# Altium integrated library Linear Technology Power Management Battery Management.IntLib: 626 symbols (part 50 of 56)
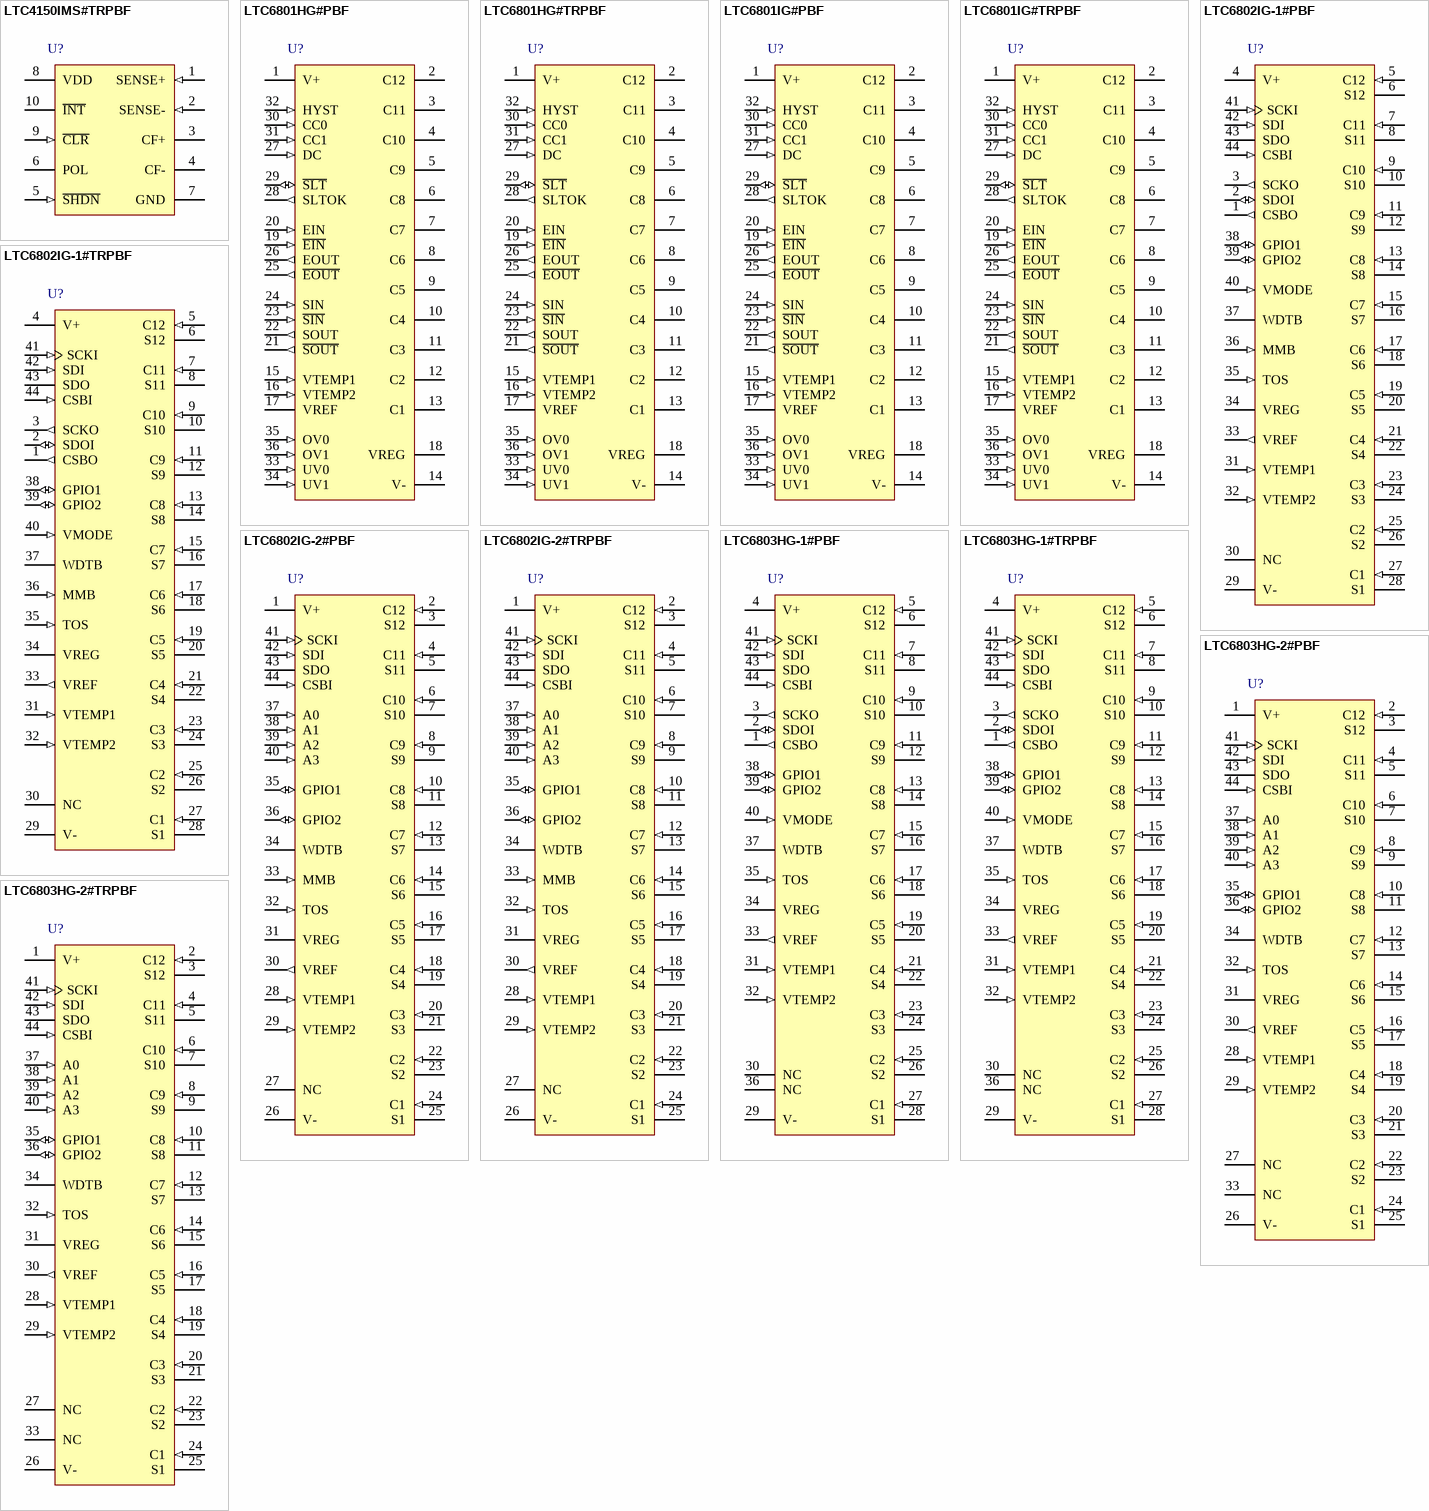
[diagram p71: symbols LTC4150IMS#TRPBF to LTC6803HG-2#TRPBF]

## LTC6801HG#TRPBF
designator U?
Independent Multicell Battery Stack Fault Monitor, 10 to 50 V Vin, 36-pin SOP (G-36), -40 to 125 degC, Pb-Free, Tape and Reel; Manufacturer: Linear Technology; PartNumber: LTC6801HG#TRPBF; Battery Chemistry: Li-Ion; Number of Cells: 12; Type of Charger: Battery Stack Monitor; Vin Max(V): 50; Vin Min(V): 10; DatasheetVersion: Rev. B; PackageReference: G-36; PackageDescription: 36-Pin Plastic SSOP, Body 12.8 x 5.3 mm, Pitch 0.65 mm; Supplier 1: Digi-Key; Supplier Part Number 1: LTC6801HG#TRPBF-ND; Packing: Tape and Reel; RoHS: TRUE; Mounting Technology: Surface Mount; ComponentLink1Description: Manufacturer URL; ComponentLink1URL: http://www.linear.com/; ComponentLink2Description: Datasheet; ComponentLink2URL: http://cds.linear.com/docs/en/datasheet/6801fb.pdf; ComponentLink3Description: Package Specification; ComponentLink3URL: http://cds.linear.com/docs/en/packaging/SSOP_36_05-08-1640.pdf
footprint LT-G-36_N (SOP, 36-Leads, Body 13.1x5.6mm, Pitch 0.65mm, IPC Medium Density)
footprint LT-G-36_L (SOP, 36-Leads, Body 13.1x5.6mm, Pitch 0.65mm, IPC High Density)
footprint LT-G-36_M (SOP, 36-Leads, Body 13.1x5.6mm, Pitch 0.65mm, IPC Low Density)
pins: 1 V+ (power) "Supply Voltage. Tied to the most positive potential in the battery stack. For example, the same potential as C12 when measuring a stack of 12 cells, or the same potential as C7 when measuring a stack of 7 cells.", 2 C12 (power) "Cell Voltage input. Up to 12 cells can be monitored. The lowest potential is tied to V-. The next lowest potential is tied to C1 and so forth. Due to internal overvoltage protection, each C input must be tied to a potential (See Datasheet)", 3 C11 (power) "Cell Voltage input. Up to 12 cells can be monitored. The lowest potential is tied to V-. The next lowest potential is tied to C1 and so forth. Due to internal overvoltage protection, each C input must be tied to a potential (See Datasheet)", 4 C10 (power) "Cell Voltage input. Up to 12 cells can be monitored. The lowest potential is tied to V-. The next lowest potential is tied to C1 and so forth. Due to internal overvoltage protection, each C input must be tied to a potential (See Datasheet)", 5 C9 (power) "Cell Voltage input. Up to 12 cells can be monitored. The lowest potential is tied to V-. The next lowest potential is tied to C1 and so forth. Due to internal overvoltage protection, each C input must be tied to a potential (See Datasheet)", 6 C8 (power) "Cell Voltage input. Up to 12 cells can be monitored. The lowest potential is tied to V-. The next lowest potential is tied to C1 and so forth. Due to internal overvoltage protection, each C input must be tied to a potential (See Datasheet)", 7 C7 (power) "Cell Voltage input. Up to 12 cells can be monitored. The lowest potential is tied to V-. The next lowest potential is tied to C1 and so forth. Due to internal overvoltage protection, each C input must be tied to a potential (See Datasheet)", 8 C6 (power) "Cell Voltage input. Up to 12 cells can be monitored. The lowest potential is tied to V-. The next lowest potential is tied to C1 and so forth. Due to internal overvoltage protection, each C input must be tied to a potential (See Datasheet)", 9 C5 (power) "Cell Voltage input. Up to 12 cells can be monitored. The lowest potential is tied to V-. The next lowest potential is tied to C1 and so forth. Due to internal overvoltage protection, each C input must be tied to a potential (See Datasheet)", 10 C4 (power) "Cell Voltage input. Up to 12 cells can be monitored. The lowest potential is tied to V-. The next lowest potential is tied to C1 and so forth. Due to internal overvoltage protection, each C input must be tied to a potential (See Datasheet)", 11 C3 (power) "Cell Voltage input. Up to 12 cells can be monitored. The lowest potential is tied to V-. The next lowest potential is tied to C1 and so forth. Due to internal overvoltage protection, each C input must be tied to a potential (See Datasheet)", 12 C2 (power) "Cell Voltage input. Up to 12 cells can be monitored. The lowest potential is tied to V-. The next lowest potential is tied to C1 and so forth. Due to internal overvoltage protection, each C input must be tied to a potential (See Datasheet)", 13 C1 (power) "Cell Voltage input. Up to 12 cells can be monitored. The lowest potential is tied to V-. The next lowest potential is tied to C1 and so forth. Due to internal overvoltage protection, each C input must be tied to a potential (See Datasheet)", 14 V- (power) "Tied to the most negative cell potential (bottom of monitored cell stack).", 15 VTEMP1 (in) "Temperature Sensor input. The ADC will measure the voltages on VTEMP1 and VTEMP2 relative to V-. The ADC measurements are referenced to the VREF pin voltage. Therefore a simple thermistor and resistor combination connected (See Datasheet)", 16 VTEMP2 (in) "Temperature Sensor input. The ADC will measure the voltages on VTEMP1 and VTEMP2 relative to V-. The ADC measurements are referenced to the VREF pin voltage. Therefore a simple thermistor and resistor combination connected (See Datasheet)", 17 VREF (hiz) "Reference Output, Nominally 3.058V. Requires a 1uF bypass capacitor to V-. The VREF pin can drive a 100k resistive load connected to V-. VREF must be buffered with an LT6003 amplifier, or similar device to drive heavier (See Datasheet)", 18 VREG (power) "Regulator Output, Nominally 5V. Requires a 1uF bypass capacitor to V-. The VREG pin is capable of supplying up to 4mA to an external load and is continually enabled.", 19 ~{EIN} (in) "Differential Enable Input. A clock signal greater than 2kHz will enable the LTC6801. For operation with a single-ended enable signal (up to 10kHz), drive EIN and connect a 1nF capacitor from E\I\N\ to V-.", 20 EIN (in) "Differential Enable Input. A clock signal greater than 2kHz will enable the LTC6801. For operation with a single-ended enable signal (up to 10kHz), drive EIN and connect a 1nF capacitor from E\I\N\ to V-.", 21 ~{SOUT} (out) "Differential Status Output. Swings V- to VREG. This output will toggle at the same frequency as EIN/E\I\N\ when a valid signal is detected at SIN/S\I\N\ and the battery stack being monitored is within specified parameters, (See Datasheet)", 22 SOUT (out) "Differential Status Output. Swings V- to VREG. This output will toggle at the same frequency as EIN/E\I\N\ when a valid signal is detected at SIN/S\I\N\ and the battery stack being monitored is within specified parameters, (See Datasheet)", 23 ~{SIN} (in) "Differential status input from the IC above. To indicate that the stack is good, SIN must be the same frequency and phase as EIN. See applications circuits for interfacing SIN to the SOUT above.", 24 SIN (in) "Differential status input from the IC above. To indicate that the stack is good, SIN must be the same frequency and phase as EIN. See applications circuits for interfacing SIN to the SOUT above.", 25 ~{EOUT} (out) "A Buffered Version of EIN/E\I\N\. Swings V- to VREG. Must be capacitively coupled to the EIN/E\I\N\ input of the next higher voltage LTC6801 in a stack, or looped to SIN/S\I\N\ of the same chip (pins 23, 24).", 26 EOUT (out) "A Buffered Version of EIN/E\I\N\. Swings V- to VREG. Must be capacitively coupled to the EIN/E\I\N\ input of the next higher voltage LTC6801 in a stack, or looped to SIN/S\I\N\ of the same chip (pins 23, 24).", 27 DC (in) "Duty Cycle Three-Level Input. This pin may be tied to VREG, VREF or V-. The DC pin selects the duty cycle of the monitoring function and has an internal pullup to VREG. See Table 3.", 28 SLTOK (out) "Self Test Logic Output. SLTOK is held HIGH (VREG voltage) upon reset or successful completion of a self test cycle. A LOW output level (V- voltage) indicates the last self test cycle failed.", 29 ~{SLT} (io) "Self Test Open Collector Input/Output. S\L\T\ initiates a self test cycle when it is pulled low externally. When a high to low transition is detected, the next scheduled measurement cycle will be a self test cycle. S\L\T\ (See Datasheet)", 30 CC0 (in) "Cell Count Three-Level input. These pins may be tied to VREG, VREF or V-. CC1 and CC0 select the number of cells attached to the device and each pin has an internal pull-up to VREG.", 31 CC1 (in) "Cell Count Three-Level input. These pins may be tied to VREG, VREF or V-. CC1 and CC0 select the number of cells attached to the device and each pin has an internal pull-up to VREG.", 32 HYST (in) "Hysteresis Three-Level Input. This pin may be tied to VREG, VREF or V-. HYST selects the amount of hysteresis applied to the undervoltage and overvoltage threshold settings and has an internal pull-down to V-.", 33 UV0 (in) "Undervoltage Three-Level input. These pins may be tied to VREG, VREF or V-. UV1 and UV0 select the undervoltage threshold and each pin has an internal pull-up to VREG.", 34 UV1 (in) "Undervoltage Three-Level input. These pins may be tied to VREG, VREF or V-. UV1 and UV0 select the undervoltage threshold and each pin has an internal pull-up to VREG.", 35 OV0 (in) "Overvoltage Three-Level input. These pins may be tied to VREG, VREF or V-. OV1 and OV0 select the overvoltage threshold and each pin has an internal pull-down to V-.", 36 OV1 (in) "Overvoltage Three-Level input. These pins may be tied to VREG, VREF or V-. OV1 and OV0 select the overvoltage threshold and each pin has an internal pull-down to V-."

## LTC6801IG#PBF
designator U?
Independent Multicell Battery Stack Fault Monitor, 10 to 50 V Vin, 36-pin SOP (G-36), -40 to 85 degC, Pb-Free; Manufacturer: Linear Technology; PartNumber: LTC6801IG#PBF; Battery Chemistry: Li-Ion; Number of Cells: 12; Type of Charger: Battery Stack Monitor; Vin Max(V): 50; Vin Min(V): 10; DatasheetVersion: Rev. B; PackageReference: G-36; PackageDescription: 36-Pin Plastic SSOP, Body 12.8 x 5.3 mm, Pitch 0.65 mm; Supplier 1: Digi-Key; Supplier Part Number 1: LTC6801IG#PBF-ND; Supplier 2: Newark; Supplier Part Number 2: 68R2491; RoHS: TRUE; Mounting Technology: Surface Mount; ComponentLink1Description: Manufacturer URL; ComponentLink1URL: http://www.linear.com/; ComponentLink2Description: Datasheet; ComponentLink2URL: http://cds.linear.com/docs/en/datasheet/6801fb.pdf; ComponentLink3Description: Package Specification; ComponentLink3URL: http://cds.linear.com/docs/en/packaging/SSOP_36_05-08-1640.pdf
footprint LT-G-36_N (SOP, 36-Leads, Body 13.1x5.6mm, Pitch 0.65mm, IPC Medium Density)
footprint LT-G-36_L (SOP, 36-Leads, Body 13.1x5.6mm, Pitch 0.65mm, IPC High Density)
footprint LT-G-36_M (SOP, 36-Leads, Body 13.1x5.6mm, Pitch 0.65mm, IPC Low Density)
pins: 1 V+ (power) "Supply Voltage. Tied to the most positive potential in the battery stack. For example, the same potential as C12 when measuring a stack of 12 cells, or the same potential as C7 when measuring a stack of 7 cells.", 2 C12 (power) "Cell Voltage input. Up to 12 cells can be monitored. The lowest potential is tied to V-. The next lowest potential is tied to C1 and so forth. Due to internal overvoltage protection, each C input must be tied to a potential (See Datasheet)", 3 C11 (power) "Cell Voltage input. Up to 12 cells can be monitored. The lowest potential is tied to V-. The next lowest potential is tied to C1 and so forth. Due to internal overvoltage protection, each C input must be tied to a potential (See Datasheet)", 4 C10 (power) "Cell Voltage input. Up to 12 cells can be monitored. The lowest potential is tied to V-. The next lowest potential is tied to C1 and so forth. Due to internal overvoltage protection, each C input must be tied to a potential (See Datasheet)", 5 C9 (power) "Cell Voltage input. Up to 12 cells can be monitored. The lowest potential is tied to V-. The next lowest potential is tied to C1 and so forth. Due to internal overvoltage protection, each C input must be tied to a potential (See Datasheet)", 6 C8 (power) "Cell Voltage input. Up to 12 cells can be monitored. The lowest potential is tied to V-. The next lowest potential is tied to C1 and so forth. Due to internal overvoltage protection, each C input must be tied to a potential (See Datasheet)", 7 C7 (power) "Cell Voltage input. Up to 12 cells can be monitored. The lowest potential is tied to V-. The next lowest potential is tied to C1 and so forth. Due to internal overvoltage protection, each C input must be tied to a potential (See Datasheet)", 8 C6 (power) "Cell Voltage input. Up to 12 cells can be monitored. The lowest potential is tied to V-. The next lowest potential is tied to C1 and so forth. Due to internal overvoltage protection, each C input must be tied to a potential (See Datasheet)", 9 C5 (power) "Cell Voltage input. Up to 12 cells can be monitored. The lowest potential is tied to V-. The next lowest potential is tied to C1 and so forth. Due to internal overvoltage protection, each C input must be tied to a potential (See Datasheet)", 10 C4 (power) "Cell Voltage input. Up to 12 cells can be monitored. The lowest potential is tied to V-. The next lowest potential is tied to C1 and so forth. Due to internal overvoltage protection, each C input must be tied to a potential (See Datasheet)", 11 C3 (power) "Cell Voltage input. Up to 12 cells can be monitored. The lowest potential is tied to V-. The next lowest potential is tied to C1 and so forth. Due to internal overvoltage protection, each C input must be tied to a potential (See Datasheet)", 12 C2 (power) "Cell Voltage input. Up to 12 cells can be monitored. The lowest potential is tied to V-. The next lowest potential is tied to C1 and so forth. Due to internal overvoltage protection, each C input must be tied to a potential (See Datasheet)", 13 C1 (power) "Cell Voltage input. Up to 12 cells can be monitored. The lowest potential is tied to V-. The next lowest potential is tied to C1 and so forth. Due to internal overvoltage protection, each C input must be tied to a potential (See Datasheet)", 14 V- (power) "Tied to the most negative cell potential (bottom of monitored cell stack).", 15 VTEMP1 (in) "Temperature Sensor input. The ADC will measure the voltages on VTEMP1 and VTEMP2 relative to V-. The ADC measurements are referenced to the VREF pin voltage. Therefore a simple thermistor and resistor combination connected (See Datasheet)", 16 VTEMP2 (in) "Temperature Sensor input. The ADC will measure the voltages on VTEMP1 and VTEMP2 relative to V-. The ADC measurements are referenced to the VREF pin voltage. Therefore a simple thermistor and resistor combination connected (See Datasheet)", 17 VREF (hiz) "Reference Output, Nominally 3.058V. Requires a 1uF bypass capacitor to V-. The VREF pin can drive a 100k resistive load connected to V-. VREF must be buffered with an LT6003 amplifier, or similar device to drive heavier (See Datasheet)", 18 VREG (power) "Regulator Output, Nominally 5V. Requires a 1uF bypass capacitor to V-. The VREG pin is capable of supplying up to 4mA to an external load and is continually enabled.", 19 ~{EIN} (in) "Differential Enable Input. A clock signal greater than 2kHz will enable the LTC6801. For operation with a single-ended enable signal (up to 10kHz), drive EIN and connect a 1nF capacitor from E\I\N\ to V-.", 20 EIN (in) "Differential Enable Input. A clock signal greater than 2kHz will enable the LTC6801. For operation with a single-ended enable signal (up to 10kHz), drive EIN and connect a 1nF capacitor from E\I\N\ to V-.", 21 ~{SOUT} (out) "Differential Status Output. Swings V- to VREG. This output will toggle at the same frequency as EIN/E\I\N\ when a valid signal is detected at SIN/S\I\N\ and the battery stack being monitored is within specified parameters, (See Datasheet)", 22 SOUT (out) "Differential Status Output. Swings V- to VREG. This output will toggle at the same frequency as EIN/E\I\N\ when a valid signal is detected at SIN/S\I\N\ and the battery stack being monitored is within specified parameters, (See Datasheet)", 23 ~{SIN} (in) "Differential status input from the IC above. To indicate that the stack is good, SIN must be the same frequency and phase as EIN. See applications circuits for interfacing SIN to the SOUT above.", 24 SIN (in) "Differential status input from the IC above. To indicate that the stack is good, SIN must be the same frequency and phase as EIN. See applications circuits for interfacing SIN to the SOUT above.", 25 ~{EOUT} (out) "A Buffered Version of EIN/E\I\N\. Swings V- to VREG. Must be capacitively coupled to the EIN/E\I\N\ input of the next higher voltage LTC6801 in a stack, or looped to SIN/S\I\N\ of the same chip (pins 23, 24).", 26 EOUT (out) "A Buffered Version of EIN/E\I\N\. Swings V- to VREG. Must be capacitively coupled to the EIN/E\I\N\ input of the next higher voltage LTC6801 in a stack, or looped to SIN/S\I\N\ of the same chip (pins 23, 24).", 27 DC (in) "Duty Cycle Three-Level Input. This pin may be tied to VREG, VREF or V-. The DC pin selects the duty cycle of the monitoring function and has an internal pullup to VREG. See Table 3.", 28 SLTOK (out) "Self Test Logic Output. SLTOK is held HIGH (VREG voltage) upon reset or successful completion of a self test cycle. A LOW output level (V- voltage) indicates the last self test cycle failed.", 29 ~{SLT} (io) "Self Test Open Collector Input/Output. S\L\T\ initiates a self test cycle when it is pulled low externally. When a high to low transition is detected, the next scheduled measurement cycle will be a self test cycle. S\L\T\ (See Datasheet)", 30 CC0 (in) "Cell Count Three-Level input. These pins may be tied to VREG, VREF or V-. CC1 and CC0 select the number of cells attached to the device and each pin has an internal pull-up to VREG.", 31 CC1 (in) "Cell Count Three-Level input. These pins may be tied to VREG, VREF or V-. CC1 and CC0 select the number of cells attached to the device and each pin has an internal pull-up to VREG.", 32 HYST (in) "Hysteresis Three-Level Input. This pin may be tied to VREG, VREF or V-. HYST selects the amount of hysteresis applied to the undervoltage and overvoltage threshold settings and has an internal pull-down to V-.", 33 UV0 (in) "Undervoltage Three-Level input. These pins may be tied to VREG, VREF or V-. UV1 and UV0 select the undervoltage threshold and each pin has an internal pull-up to VREG.", 34 UV1 (in) "Undervoltage Three-Level input. These pins may be tied to VREG, VREF or V-. UV1 and UV0 select the undervoltage threshold and each pin has an internal pull-up to VREG.", 35 OV0 (in) "Overvoltage Three-Level input. These pins may be tied to VREG, VREF or V-. OV1 and OV0 select the overvoltage threshold and each pin has an internal pull-down to V-.", 36 OV1 (in) "Overvoltage Three-Level input. These pins may be tied to VREG, VREF or V-. OV1 and OV0 select the overvoltage threshold and each pin has an internal pull-down to V-."

## LTC6801IG#TRPBF
designator U?
Independent Multicell Battery Stack Fault Monitor, 10 to 50 V Vin, 36-pin SOP (G-36), -40 to 85 degC, Pb-Free, Tape and Reel; Manufacturer: Linear Technology; PartNumber: LTC6801IG#TRPBF; Battery Chemistry: Li-Ion; Number of Cells: 12; Type of Charger: Battery Stack Monitor; Vin Max(V): 50; Vin Min(V): 10; DatasheetVersion: Rev. B; PackageReference: G-36; PackageDescription: 36-Pin Plastic SSOP, Body 12.8 x 5.3 mm, Pitch 0.65 mm; Supplier 1: Digi-Key; Supplier Part Number 1: LTC6801IG#TRPBF-ND; Supplier 2: Newark; Supplier Part Number 2: 68R2492; Packing: Tape and Reel; RoHS: TRUE; Mounting Technology: Surface Mount; ComponentLink1Description: Manufacturer URL; ComponentLink1URL: http://www.linear.com/; ComponentLink2Description: Datasheet; ComponentLink2URL: http://cds.linear.com/docs/en/datasheet/6801fb.pdf; ComponentLink3Description: Package Specification; ComponentLink3URL: http://cds.linear.com/docs/en/packaging/SSOP_36_05-08-1640.pdf
footprint LT-G-36_N (SOP, 36-Leads, Body 13.1x5.6mm, Pitch 0.65mm, IPC Medium Density)
footprint LT-G-36_L (SOP, 36-Leads, Body 13.1x5.6mm, Pitch 0.65mm, IPC High Density)
footprint LT-G-36_M (SOP, 36-Leads, Body 13.1x5.6mm, Pitch 0.65mm, IPC Low Density)
pins: 1 V+ (power) "Supply Voltage. Tied to the most positive potential in the battery stack. For example, the same potential as C12 when measuring a stack of 12 cells, or the same potential as C7 when measuring a stack of 7 cells.", 2 C12 (power) "Cell Voltage input. Up to 12 cells can be monitored. The lowest potential is tied to V-. The next lowest potential is tied to C1 and so forth. Due to internal overvoltage protection, each C input must be tied to a potential (See Datasheet)", 3 C11 (power) "Cell Voltage input. Up to 12 cells can be monitored. The lowest potential is tied to V-. The next lowest potential is tied to C1 and so forth. Due to internal overvoltage protection, each C input must be tied to a potential (See Datasheet)", 4 C10 (power) "Cell Voltage input. Up to 12 cells can be monitored. The lowest potential is tied to V-. The next lowest potential is tied to C1 and so forth. Due to internal overvoltage protection, each C input must be tied to a potential (See Datasheet)", 5 C9 (power) "Cell Voltage input. Up to 12 cells can be monitored. The lowest potential is tied to V-. The next lowest potential is tied to C1 and so forth. Due to internal overvoltage protection, each C input must be tied to a potential (See Datasheet)", 6 C8 (power) "Cell Voltage input. Up to 12 cells can be monitored. The lowest potential is tied to V-. The next lowest potential is tied to C1 and so forth. Due to internal overvoltage protection, each C input must be tied to a potential (See Datasheet)", 7 C7 (power) "Cell Voltage input. Up to 12 cells can be monitored. The lowest potential is tied to V-. The next lowest potential is tied to C1 and so forth. Due to internal overvoltage protection, each C input must be tied to a potential (See Datasheet)", 8 C6 (power) "Cell Voltage input. Up to 12 cells can be monitored. The lowest potential is tied to V-. The next lowest potential is tied to C1 and so forth. Due to internal overvoltage protection, each C input must be tied to a potential (See Datasheet)", 9 C5 (power) "Cell Voltage input. Up to 12 cells can be monitored. The lowest potential is tied to V-. The next lowest potential is tied to C1 and so forth. Due to internal overvoltage protection, each C input must be tied to a potential (See Datasheet)", 10 C4 (power) "Cell Voltage input. Up to 12 cells can be monitored. The lowest potential is tied to V-. The next lowest potential is tied to C1 and so forth. Due to internal overvoltage protection, each C input must be tied to a potential (See Datasheet)", 11 C3 (power) "Cell Voltage input. Up to 12 cells can be monitored. The lowest potential is tied to V-. The next lowest potential is tied to C1 and so forth. Due to internal overvoltage protection, each C input must be tied to a potential (See Datasheet)", 12 C2 (power) "Cell Voltage input. Up to 12 cells can be monitored. The lowest potential is tied to V-. The next lowest potential is tied to C1 and so forth. Due to internal overvoltage protection, each C input must be tied to a potential (See Datasheet)", 13 C1 (power) "Cell Voltage input. Up to 12 cells can be monitored. The lowest potential is tied to V-. The next lowest potential is tied to C1 and so forth. Due to internal overvoltage protection, each C input must be tied to a potential (See Datasheet)", 14 V- (power) "Tied to the most negative cell potential (bottom of monitored cell stack).", 15 VTEMP1 (in) "Temperature Sensor input. The ADC will measure the voltages on VTEMP1 and VTEMP2 relative to V-. The ADC measurements are referenced to the VREF pin voltage. Therefore a simple thermistor and resistor combination connected (See Datasheet)", 16 VTEMP2 (in) "Temperature Sensor input. The ADC will measure the voltages on VTEMP1 and VTEMP2 relative to V-. The ADC measurements are referenced to the VREF pin voltage. Therefore a simple thermistor and resistor combination connected (See Datasheet)", 17 VREF (hiz) "Reference Output, Nominally 3.058V. Requires a 1uF bypass capacitor to V-. The VREF pin can drive a 100k resistive load connected to V-. VREF must be buffered with an LT6003 amplifier, or similar device to drive heavier (See Datasheet)", 18 VREG (power) "Regulator Output, Nominally 5V. Requires a 1uF bypass capacitor to V-. The VREG pin is capable of supplying up to 4mA to an external load and is continually enabled.", 19 ~{EIN} (in) "Differential Enable Input. A clock signal greater than 2kHz will enable the LTC6801. For operation with a single-ended enable signal (up to 10kHz), drive EIN and connect a 1nF capacitor from E\I\N\ to V-.", 20 EIN (in) "Differential Enable Input. A clock signal greater than 2kHz will enable the LTC6801. For operation with a single-ended enable signal (up to 10kHz), drive EIN and connect a 1nF capacitor from E\I\N\ to V-.", 21 ~{SOUT} (out) "Differential Status Output. Swings V- to VREG. This output will toggle at the same frequency as EIN/E\I\N\ when a valid signal is detected at SIN/S\I\N\ and the battery stack being monitored is within specified parameters, (See Datasheet)", 22 SOUT (out) "Differential Status Output. Swings V- to VREG. This output will toggle at the same frequency as EIN/E\I\N\ when a valid signal is detected at SIN/S\I\N\ and the battery stack being monitored is within specified parameters, (See Datasheet)", 23 ~{SIN} (in) "Differential status input from the IC above. To indicate that the stack is good, SIN must be the same frequency and phase as EIN. See applications circuits for interfacing SIN to the SOUT above.", 24 SIN (in) "Differential status input from the IC above. To indicate that the stack is good, SIN must be the same frequency and phase as EIN. See applications circuits for interfacing SIN to the SOUT above.", 25 ~{EOUT} (out) "A Buffered Version of EIN/E\I\N\. Swings V- to VREG. Must be capacitively coupled to the EIN/E\I\N\ input of the next higher voltage LTC6801 in a stack, or looped to SIN/S\I\N\ of the same chip (pins 23, 24).", 26 EOUT (out) "A Buffered Version of EIN/E\I\N\. Swings V- to VREG. Must be capacitively coupled to the EIN/E\I\N\ input of the next higher voltage LTC6801 in a stack, or looped to SIN/S\I\N\ of the same chip (pins 23, 24).", 27 DC (in) "Duty Cycle Three-Level Input. This pin may be tied to VREG, VREF or V-. The DC pin selects the duty cycle of the monitoring function and has an internal pullup to VREG. See Table 3.", 28 SLTOK (out) "Self Test Logic Output. SLTOK is held HIGH (VREG voltage) upon reset or successful completion of a self test cycle. A LOW output level (V- voltage) indicates the last self test cycle failed.", 29 ~{SLT} (io) "Self Test Open Collector Input/Output. S\L\T\ initiates a self test cycle when it is pulled low externally. When a high to low transition is detected, the next scheduled measurement cycle will be a self test cycle. S\L\T\ (See Datasheet)", 30 CC0 (in) "Cell Count Three-Level input. These pins may be tied to VREG, VREF or V-. CC1 and CC0 select the number of cells attached to the device and each pin has an internal pull-up to VREG.", 31 CC1 (in) "Cell Count Three-Level input. These pins may be tied to VREG, VREF or V-. CC1 and CC0 select the number of cells attached to the device and each pin has an internal pull-up to VREG.", 32 HYST (in) "Hysteresis Three-Level Input. This pin may be tied to VREG, VREF or V-. HYST selects the amount of hysteresis applied to the undervoltage and overvoltage threshold settings and has an internal pull-down to V-.", 33 UV0 (in) "Undervoltage Three-Level input. These pins may be tied to VREG, VREF or V-. UV1 and UV0 select the undervoltage threshold and each pin has an internal pull-up to VREG.", 34 UV1 (in) "Undervoltage Three-Level input. These pins may be tied to VREG, VREF or V-. UV1 and UV0 select the undervoltage threshold and each pin has an internal pull-up to VREG.", 35 OV0 (in) "Overvoltage Three-Level input. These pins may be tied to VREG, VREF or V-. OV1 and OV0 select the overvoltage threshold and each pin has an internal pull-down to V-.", 36 OV1 (in) "Overvoltage Three-Level input. These pins may be tied to VREG, VREF or V-. OV1 and OV0 select the overvoltage threshold and each pin has an internal pull-down to V-."

## LTC6802IG-1#PBF
designator U?
Multicell Battery Stack Monitor, 10 to 50 V Vin, 44-pin SOP (G-44), -40 to 85 degC, Pb-Free; Manufacturer: Linear Technology; PartNumber: LTC6802IG-1#PBF; Battery Chemistry: Li-Ion; Number of Cells: > 1000 V of stacked Li-Ion cells; Vin Max(V): 50; Vin Min(V): 10; DatasheetVersion: Rev. A; PackageVersion: Rev. Ø, 06/2010; PackageReference: G-44; PackageDescription: 44-Pin Plastic SSOP, Body 12.8 x 5.3 mm, Pitch 0.5 mm; Supplier 1: Digi-Key; Supplier Part Number 1: LTC6802IG-1#PBF-ND; Supplier 2: Farnell; Supplier Part Number 2: 1847456; Supplier 3: Newark; Supplier Part Number 3: 56P3097; RoHS: TRUE; Type of Charger: Battery Stack Monitor; Mounting Technology: Surface Mount; ComponentLink1Description: Manufacturer URL; ComponentLink1URL: http://www.linear.com/; ComponentLink2Description: Datasheet; ComponentLink2URL: http://cds.linear.com/docs/en/datasheet/68021fa.pdf; ComponentLink3Description: Package Specification; ComponentLink3URL: http://cds.linear.com/docs/en/packaging/SSOP_44_05-08-1754.pdf
footprint LT-G-44_N (SOP, 44-Leads, Body 13.1x5.6mm, Pitch 0.5mm, IPC Medium Density)
footprint LT-G-44_L (SOP, 44-Leads, Body 13.1x5.6mm, Pitch 0.5mm, IPC High Density)
footprint LT-G-44_M (SOP, 44-Leads, Body 13.1x5.6mm, Pitch 0.5mm, IPC Low Density)
pins: 1 CSBO (out) "Chip Select Output (Active Low). CSBO is a buffered version of the chip select input, CSBI. CSBO drives the next IC in the daisy chain. See Serial Port in the Applications Information section.", 2 SDOI (io) "Serial Data I/O Pin. SDOI transfers data to and from the next IC in the daisy chain. See Serial Port in the Applications Information section.", 3 SCKO (out) "Serial Clock Output. SCKO is a buffered version of SCKI. SCKO drives the next IC in the daisy chain. See Serial Port in the Applications Information section.", 4 V+ (power) "Tie pin 4 to the most positive potential in the battery stack. Typically V+ is the same potential as C12.", 5 C12 (in) "C1 through C12 are the inputs for monitoring battery cell voltages. Up to 12 cells can be monitored. The lowest potential is tied to pin V-. The next lowest potential is tied to C1 and so forth. See the figures in the (See Datasheet)", 6 S12 (hiz) "S1 though S12 pins are used to balance battery cells. If one cell in a series becomes over charged, an S output can be used to discharge the cell. Each S output has an internal N-channel MOSFET for discharging. See the Block (See Datasheet)", 7 C11 (in) "C1 through C12 are the inputs for monitoring battery cell voltages. Up to 12 cells can be monitored. The lowest potential is tied to pin V-. The next lowest potential is tied to C1 and so forth. See the figures in the (See Datasheet)", 8 S11 (hiz) "S1 though S12 pins are used to balance battery cells. If one cell in a series becomes over charged, an S output can be used to discharge the cell. Each S output has an internal N-channel MOSFET for discharging. See the Block (See Datasheet)", 9 C10 (in) "C1 through C12 are the inputs for monitoring battery cell voltages. Up to 12 cells can be monitored. The lowest potential is tied to pin V-. The next lowest potential is tied to C1 and so forth. See the figures in the (See Datasheet)", 10 S10 (hiz) "S1 though S12 pins are used to balance battery cells. If one cell in a series becomes over charged, an S output can be used to discharge the cell. Each S output has an internal N-channel MOSFET for discharging. See the Block (See Datasheet)", 11 C9 (in) "C1 through C12 are the inputs for monitoring battery cell voltages. Up to 12 cells can be monitored. The lowest potential is tied to pin V-. The next lowest potential is tied to C1 and so forth. See the figures in the (See Datasheet)", 12 S9 (hiz) "S1 though S12 pins are used to balance battery cells. If one cell in a series becomes over charged, an S output can be used to discharge the cell. Each S output has an internal N-channel MOSFET for discharging. See the Block (See Datasheet)", 13 C8 (in) "C1 through C12 are the inputs for monitoring battery cell voltages. Up to 12 cells can be monitored. The lowest potential is tied to pin V-. The next lowest potential is tied to C1 and so forth. See the figures in the (See Datasheet)", 14 S8 (hiz) "S1 though S12 pins are used to balance battery cells. If one cell in a series becomes over charged, an S output can be used to discharge the cell. Each S output has an internal N-channel MOSFET for discharging. See the Block (See Datasheet)", 15 C7 (in) "C1 through C12 are the inputs for monitoring battery cell voltages. Up to 12 cells can be monitored. The lowest potential is tied to pin V-. The next lowest potential is tied to C1 and so forth. See the figures in the (See Datasheet)", 16 S7 (hiz) "S1 though S12 pins are used to balance battery cells. If one cell in a series becomes over charged, an S output can be used to discharge the cell. Each S output has an internal N-channel MOSFET for discharging. See the Block (See Datasheet)", 17 C6 (in) "C1 through C12 are the inputs for monitoring battery cell voltages. Up to 12 cells can be monitored. The lowest potential is tied to pin V-. The next lowest potential is tied to C1 and so forth. See the figures in the (See Datasheet)", 18 S6 (hiz) "S1 though S12 pins are used to balance battery cells. If one cell in a series becomes over charged, an S output can be used to discharge the cell. Each S output has an internal N-channel MOSFET for discharging. See the Block (See Datasheet)", 19 C5 (in) "C1 through C12 are the inputs for monitoring battery cell voltages. Up to 12 cells can be monitored. The lowest potential is tied to pin V-. The next lowest potential is tied to C1 and so forth. See the figures in the (See Datasheet)", 20 S5 (hiz) "S1 though S12 pins are used to balance battery cells. If one cell in a series becomes over charged, an S output can be used to discharge the cell. Each S output has an internal N-channel MOSFET for discharging. See the Block (See Datasheet)", 21 C4 (in) "C1 through C12 are the inputs for monitoring battery cell voltages. Up to 12 cells can be monitored. The lowest potential is tied to pin V-. The next lowest potential is tied to C1 and so forth. See the figures in the (See Datasheet)", 22 S4 (hiz) "S1 though S12 pins are used to balance battery cells. If one cell in a series becomes over charged, an S output can be used to discharge the cell. Each S output has an internal N-channel MOSFET for discharging. See the Block (See Datasheet)", 23 C3 (in) "C1 through C12 are the inputs for monitoring battery cell voltages. Up to 12 cells can be monitored. The lowest potential is tied to pin V-. The next lowest potential is tied to C1 and so forth. See the figures in the (See Datasheet)", 24 S3 (hiz) "S1 though S12 pins are used to balance battery cells. If one cell in a series becomes over charged, an S output can be used to discharge the cell. Each S output has an internal N-channel MOSFET for discharging. See the Block (See Datasheet)", 25 C2 (in) "C1 through C12 are the inputs for monitoring battery cell voltages. Up to 12 cells can be monitored. The lowest potential is tied to pin V-. The next lowest potential is tied to C1 and so forth. See the figures in the (See Datasheet)", 26 S2 (hiz) "S1 though S12 pins are used to balance battery cells. If one cell in a series becomes over charged, an S output can be used to discharge the cell. Each S output has an internal N-channel MOSFET for discharging. See the Block (See Datasheet)", 27 C1 (in) "C1 through C12 are the inputs for monitoring battery cell voltages. Up to 12 cells can be monitored. The lowest potential is tied to pin V-. The next lowest potential is tied to C1 and so forth. See the figures in the (See Datasheet)", 28 S1 (hiz) "S1 though S12 pins are used to balance battery cells. If one cell in a series becomes over charged, an S output can be used to discharge the cell. Each S output has an internal N-channel MOSFET for discharging. See the Block (See Datasheet)", 29 V- (power) "Connect V- to the most negative potential in the series of cells.", 30 NC "Pin 30 is internally connected to V- through 10ohm. Pin 30 can be left unconnected or connected to pin 29 on the PCB.", 31 VTEMP1 (in) "Temperature Sensor Inputs. The ADC measures the voltage on VTEMP1 with respect to V- and stores the result in the TMP registers. The ADC measurements are relative to the VREF pin voltage. Therefore a simple thermistor and (See Datasheet)", 32 VTEMP2 (in) "Temperature Sensor Inputs. The ADC measures the voltage on VTEMP2 with respect to V- and stores the result in the TMP registers. The ADC measurements are relative to the VREF pin voltage. Therefore a simple thermistor and (See Datasheet)", 33 VREF (out) "3.075V Voltage Reference Output. This pin should be bypassed with a 1uF capacitor. The VREF pin can drive a 100k resistive load connected to V-. Larger loads should be buffered with an LT6003 op amp, or similar device.", 34 VREG (power) "Linear Voltage Regulator Output. This pin should be bypassed with a 1uF capacitor. The VREG pin is capable of supplying up to 4mA to an external load. The VREG pin does not sink current.", 35 TOS (in) "Top of Stack Input. Tie TOS to VREG when the LTC6802-1 is the top device in a daisy chain. Tie TOS to V- when the LTC6802-1 is any other device in a daisy chain. When TOS is tied to VREG, the LTC6802-1 ignores the SDOI input.(See Datasheet)", 36 MMB (in) "Monitor Mode (Active Low) Input. When MMB is low (same potential as V-), the LTC6802-1 goes into monitor mode. See Modes of Operation in the Applications Information section.", 37 WDTB (oc) "Watchdog Timer Output (Active Low). If there is no activity on the SCKI pin for 2.5 seconds, the WDTB output is asserted. The WDTB pin is an open drain NMOS output. When asserted it pulls the output down to V- and resets the (See Datasheet)", 38 GPIO1 (io) "General Purpose Input/Output. The operation of these pins depends on the state of the MMB pin. When MMB is high, the pins behave as traditional GPIOs. By writing a ??to a GPIO configuration register bit, the open dr(See Datasheet)", 39 GPIO2 (io) "General Purpose Input/Output. The operation of these pins depends on the state of the MMB pin. When MMB is high, the pins behave as traditional GPIOs. By writing a ??to a GPIO configuration register bit, the open dr(See Datasheet)", 40 VMODE (in) "Voltage Mode Input. When VMODE is tied to VREG, the SCKI, SDI, SDO, and CSBI pins are configured as voltage inputs and outputs. This means these pins accept standard TTL logic levels. Connect VMODE to VREG when the LTC6802-1 (See Datasheet)", 41 SCKI (in) "Serial Clock Input. The SCKI pin interfaces to any logic gate (TTL levels) if VMODE is tied to VREG. SCKI must be driven by the SCKO pin of another LTC6802-1 if VMODE is tied to V-. See Serial Port in the Applications (See Datasheet)", 42 SDI (in) "Serial Data Input. The SDI pin interfaces to any logic gate (TTL levels) if VMODE is tied to VREG. SDI must be driven by the SDOI pin of another LTC6802-1 if VMODE is tied to V-. See Serial Port in the Applications (See Datasheet)", 43 SDO (oc) "Serial Data Output. The SDO pin is an NMOS open drain output if VMODE is tied to VREG. SDO is not used if VMODE is tied to V-. See Serial Port in the Applications Information section.", 44 CSBI (in) "Chip Select (Active Low) Input. The CSBI pin interfaces to any logic gate (TTL levels) if VMODE is tied to VREG. CSBI must be driven by the CSBO pin of another LTC6802-1 if VMODE is tied to V-. See Serial Port in the (See Datasheet)"